# Altium footprint library MPU.PcbLib: 1 footprints
Each footprint in its own frame and in the unit in brackets; x right, y up, seen from the top. Pads: shape width x height; smd on the part's side, far side on the other; paste and mask are expansions set on the pad; w line width, h text height; cw(c..) or ccw(c..) is an arc to the next point about the centre after c.
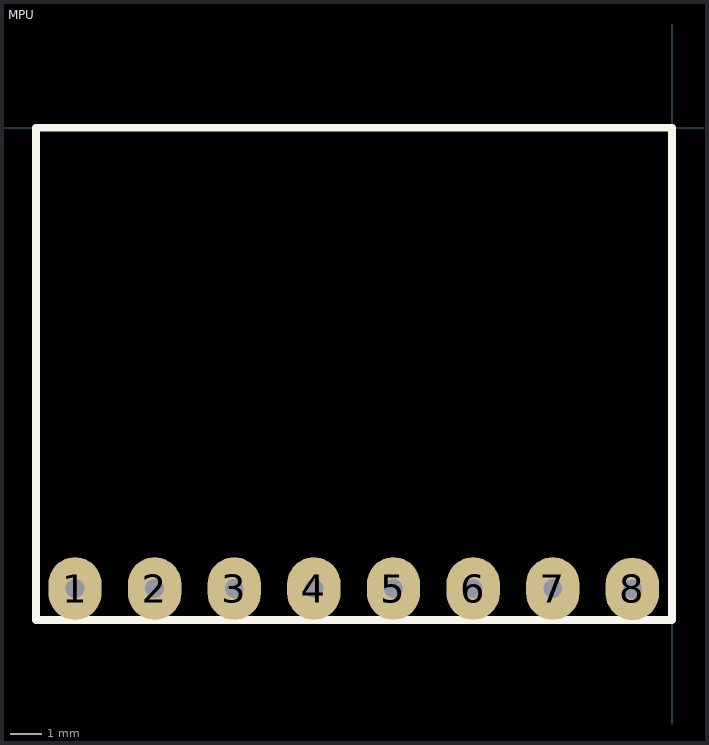
[diagram p0: the footprint, top view; thin cyan lines are the x and y axes]

## MPU [mm]
pads (8):
  oval 1.7x2 hole 0.6: 1(-19.05,-14.7) 2(-16.51,-14.7) 3(-13.97,-14.7) 4(-11.43,-14.7) 5(-8.89,-14.7) 6(-6.35,-14.7) 7(-3.81,-14.7) 8(-1.27,-14.71)
Top Overlay:
  lines w0.254: -20.3,-15.7 -20.3,0 0,0 0,-15.7 ; -20.3,-15.7 0,-15.7 ; -20.3,-15.7 0,-15.7
3D body "MPU_6050.step": height 1.5, standoff -1.5, extent -20.41,-15.747 0.09,0.253
3D body "MPU-9250.stp": height 1.7, standoff -11.07, extent -25.273,-13.208 0.127,1.792